# Altium footprint library Diode.PcbLib: 27 footprints (part 2 of 2)
Each footprint in its own frame and in the unit in brackets; x right, y up, seen from the top. Pads: shape width x height; smd on the part's side, far side on the other; paste and mask are expansions set on the pad; w line width, h text height; cw(c..) or ccw(c..) is an arc to the next point about the centre after c.
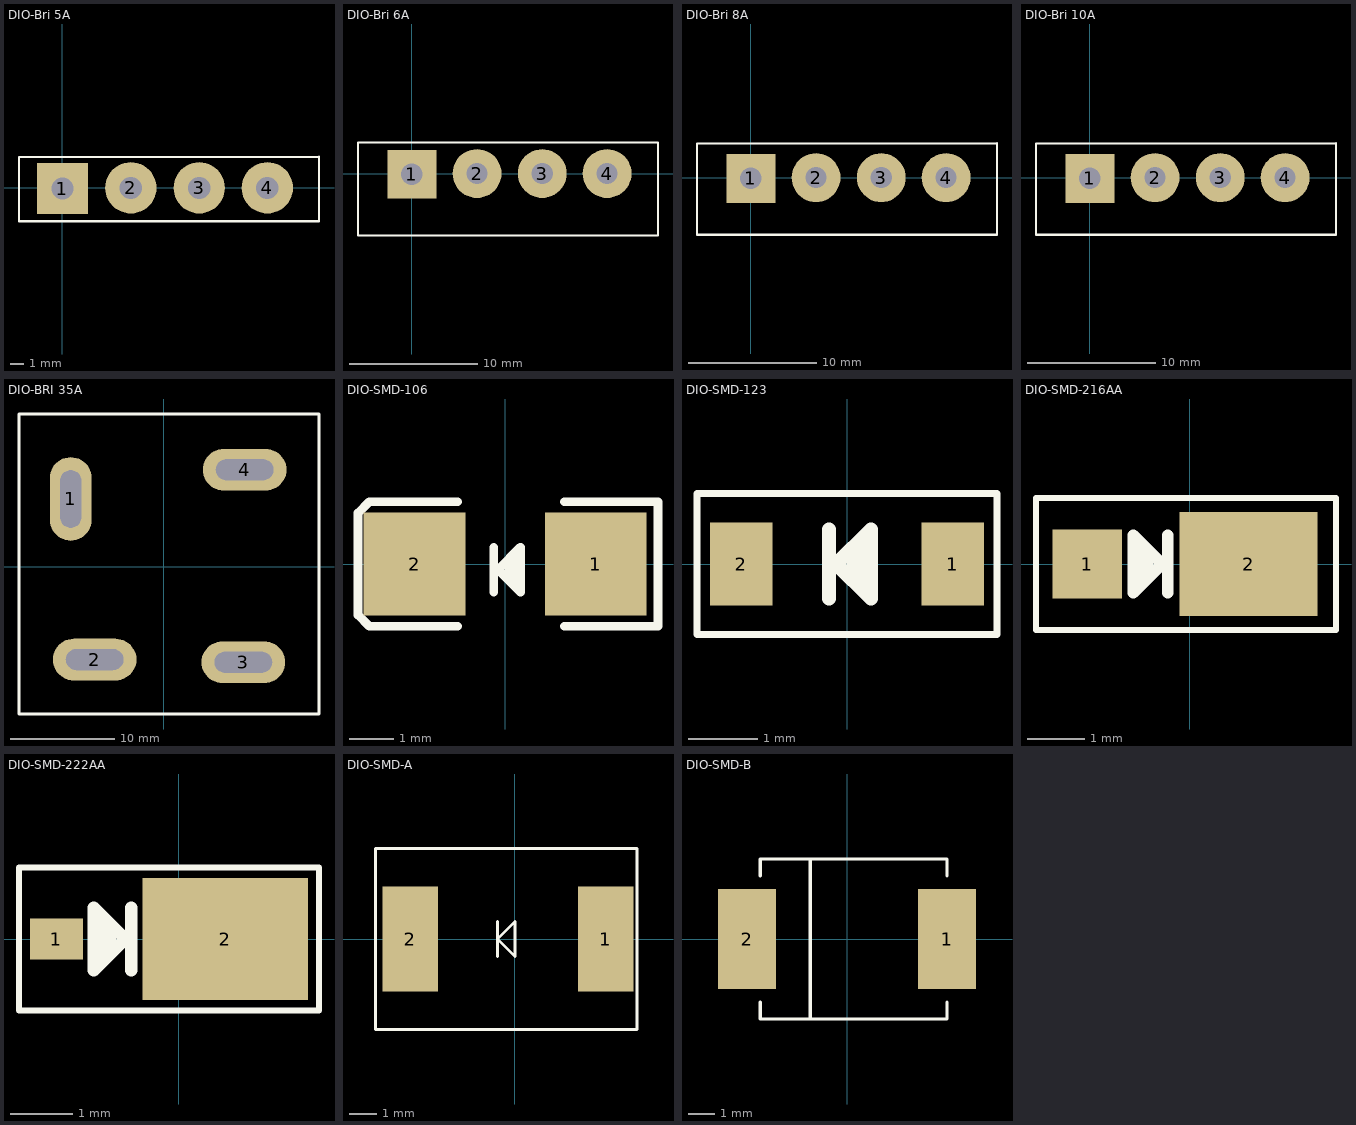
[diagram p1: the footprints below, top view; thin cyan lines are the x and y axes]

## DIO-Bri 5A [mil] "Brigde 5A"
height 800
pads (4):
  rect 150x150 hole 65: 1(0,-2)
  round 150 hole 65: 2(200,0) 3(400,0) 4(599,0)
Top Overlay:
  lines w7: -127,-97 -127,89.34 750,90.44 750,-97 -127,-97
3D body "SW3dPS-bridge 2.STEP": height 937.01, standoff -505.29, extent -128.98,-90 748.97,58.03

## DIO-Bri 6A [mil] "Brigde 6A"
height 800
pads (4):
  rect 150x150 hole 65: 1(0,-2)
  round 150 hole 65: 2(200,0) 3(400,0) 4(599,0)
Top Overlay:
  lines w7: -165,-190 755,-190 755,95.55 -165,94.4 -165,-190
3D body "User Library-Silicon Bridge Rectifiers RS606.step": height 931.1, standoff -852.36, extent -161.69,-185 751.69,88.62

## DIO-Bri 8A [mil] "Brigde 8A"
height 800
pads (4):
  rect 150x150 hole 65: 1(0,-2)
  round 150 hole 65: 2(200,0) 3(400,0) 4(599,0)
Top Overlay:
  lines w7: -165,-175 -165,104.19 755,105.34 755,-175 -165,-175
3D body "User Library-Silicon Bridge Rectifiers KBU8A.step": height 931.1, standoff -734.25, extent -161.7,-173.62 751.69,100

## DIO-Bri 10A [mil] "Brigde 10A"
height 800
pads (4):
  rect 150x150 hole 65: 1(0,-2)
  round 150 hole 65: 2(200,0) 3(400,0) 4(599,0)
Top Overlay:
  lines w7: -165,-175 -165,104.19 755,105.34 755,-175 -165,-175
3D body "User Library-Silicon Bridge Rectifiers KBU1010.step": height 931.1, standoff -734.25, extent -161.69,-173.62 751.69,100

## DIO-BRI 35A [mm] "35A/1000V"
pads (4):
  oval 4x8 hole 2 slot 5.5 at 90 deg: 1(-8.89,6.477)
  oval 8x4 hole 2 slot 5.5 at 0 deg: 2(-6.604,-8.89) 3(7.62,-9.144) 4(7.747,9.271)
Top Overlay:
  lines w0.254: -13.843,-14.097 -13.843,14.605 14.859,14.605 14.859,-14.097 -13.843,-14.097
3D body "User Library-Diode Bridge.step": height 7.5, standoff -14.5, extent -13.741,-14.046 14.859,14.554

## DIO-SMD-106 [mil]
pads (2):
  rect 90x90.55 smd: 1(80,0) 2(-80,0)
Top Overlay:
  lines w7.87: -42.24,-55 -120,-55 -130,-45 -130,45 -120,55 -42.24,55 ; -10.12,-24.68 -10.12,14.69 ; 3.66,-10.91 3.66,0.91 ; 9.57,-16.81 9.57,6.81 ; 52.24,-55 135,-55 135,55 52.24,55 ; -6.18,-5 13.5,-24.68 13.5,14.69 -6.18,-5
Mechanical 1:
  lines w3.94: -2.87,0 12.87,0 ; 5,-7.87 5,7.87
3D body "User Library-DO-214Aa SMA.step": height 94.69, standoff 0, extent -98.7,-50.27 106.03,52.09

## DIO-SMD-123 [mm]
pads (2):
  rect 0.9x1.2 smd: 1(1.524,0) 2(-1.524,0)
Top Overlay:
  lines w0.102: -2.159,-1.016 -2.159,1.016 2.159,1.016 2.159,-1.016 -2.159,-1.016
  lines w0.2: -0.257,-0.5 -0.257,0.5 ; 0.093,-0.15 0.093,0.15 ; 0.243,-0.3 0.243,0.3 ; -0.157,0 0.343,-0.5 0.343,0.5 -0.157,0
3D body "User Library-SOD-123.step": height 1.25, standoff 0, extent -1.756,-0.8 1.942,0.8

## DIO-SMD-216AA [mm] "DO216AA ST-MITE"
pads (2):
  rect 1.2x1.2 smd: 1(-1.778,0)
  rect 2.4x1.8 smd: 2(1.022,0)
Top Overlay:
  lines w0.102: -2.667,-1.143 2.54,-1.143 2.54,1.143 -2.667,1.143 -2.667,-1.143
  lines w0.2: -0.878,-0.3 -0.878,0.3 ; -0.728,-0.15 -0.728,0.15 ; -0.378,-0.5 -0.378,0.5 ; -0.978,-0.5 -0.978,0.5 -0.478,0 -0.978,-0.5
3D body "User Library-microsemi_powermite.step": height 1.02, standoff 0, extent -1.994,-0.955 1.766,0.955

## DIO-SMD-222AA [mm] "DO216AA ST-MITE"
pads (2):
  rect 0.85x0.65 smd: 1(-1.959,0)
  rect 2.65x1.95 smd: 2(0.741,0)
Top Overlay:
  lines w0.102: -2.559,-1.143 -2.559,1.143 2.241,1.143 2.241,-1.143 -2.559,-1.143
  lines w0.2: -1.259,-0.3 -1.259,0.3 ; -1.109,-0.15 -1.109,0.15 ; -0.759,-0.5 -0.759,0.5 ; -1.359,-0.5 -0.859,0 -1.359,0.5 -1.359,-0.5
3D body "User Library-DO216-AA.step": height 0.85, standoff 0, extent -2.154,-0.954 1.646,0.954

## DIO-SMD-A [mil]
pads (2):
  rect 80x150 smd: 1(130,0) 2(-150,0)
Top Overlay:
  lines w4: -180,129.92 -200,129.92 ; -25,-25 -25,0 ; -25,25 -25,0 ; 150,-129.92 175,-129.92 ; -200,129.92 -200,-129.92 175,-129.92 ; -200,129.92 175,129.92 175,-129.92 ; -25,0 0,-25 0,0 0,25 -25,0
3D body "User Library-Diode Molded 5025Body.step": height 83.95, standoff -1.08, extent -165.51,-118.11 145.51,118.11

## DIO-SMD-B [mm] "Magnetic-Core Inductor with Winding Polarity Marking; 2 Leads"
pads (2):
  rect 2.2x3.81 smd: 1(3.81,0) 2(-3.81,0)
Top Overlay:
  lines w0.127: -3.302,-2.413 -3.302,-3.048 3.81,-3.048 3.81,-2.413 ; -3.302,2.413 -3.302,3.048 3.81,3.048 3.81,2.413 ; -1.397,-3.048 -1.397,3.048
Mechanical 1:
  lines w0.025: -3.302,-3.048 3.81,-3.048 ; -3.302,3.048 3.81,3.048
3D body "User Library-Diode Molded 5025Body.step": height 2.13, standoff -0.03, extent -3.937,-3.079 3.963,2.921